# EAGLE library part GUMSENSE (library basestation)
The gumsense board footprint Each subcircuit or header has its own symbol. Placement of each part is optional. Remember that to get a gumsense to mate correctly onto this footprint, its pin headers must all be soldered mirrored; projecting from the bottom of the board.
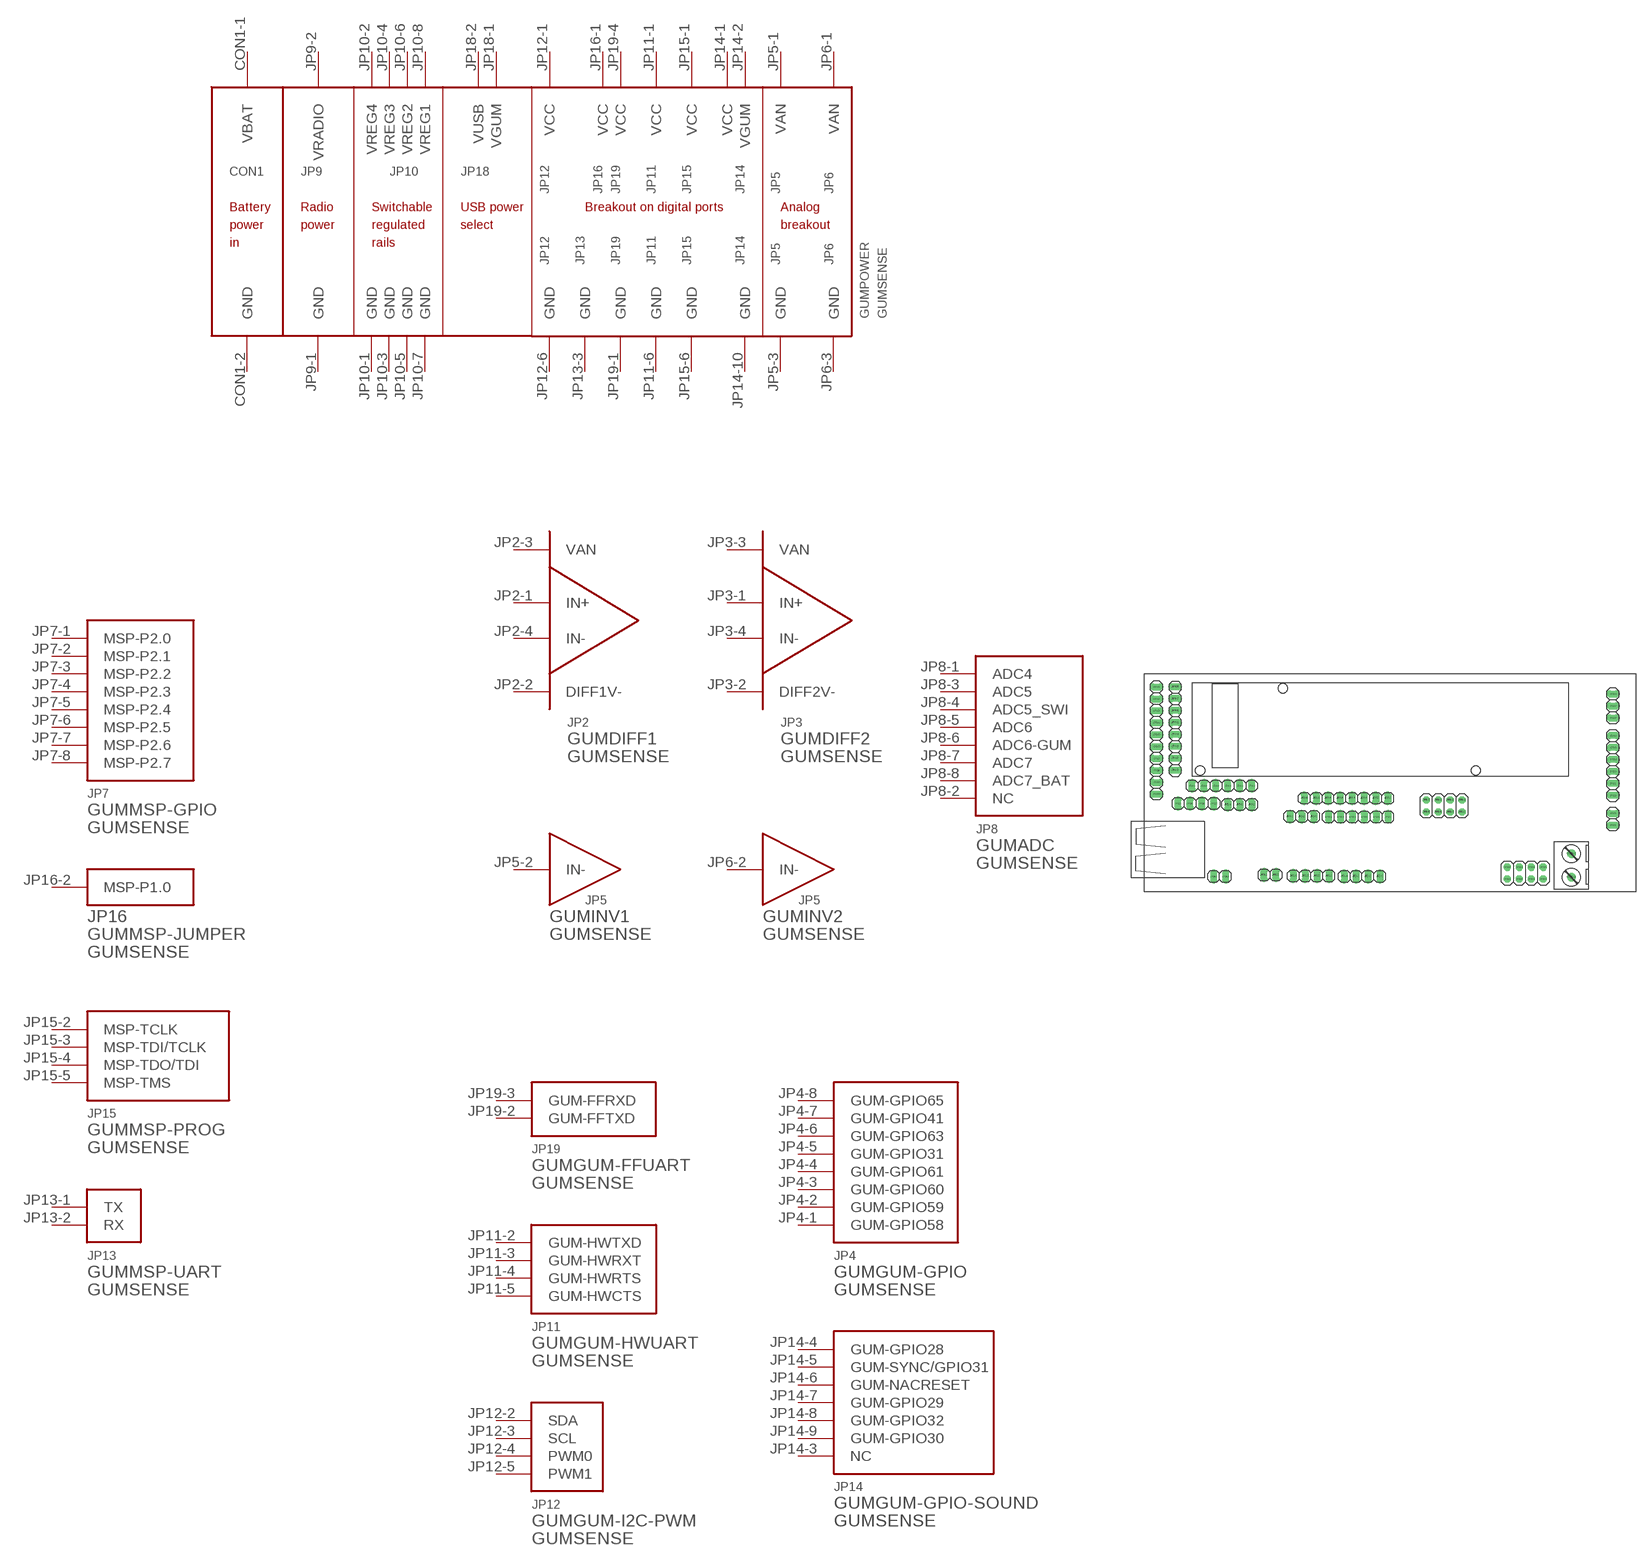
[diagram p0: symbol with the pads of GUMSENSE; footprint GUMSENSE]

Designator prefix GUM; gates DIFF1=GUMSENSE-AN-DIFF1 DIFF2=GUMSENSE-AN-DIFF2 INV1=GUMSENSE-AN-INV1 INV2=GUMSENSE-AN-INV1 ADC=GUMSENSE-MSP-ADC MSP-GPIO=GUMSENSE-MSP-GPIO MSP-JUMPER=GUMSENSE-MSP-JUMPER MSP-PROG=GUMSENSE-MSP-PROG MSP-UART=GUMSENSE-MSP-UART POWER=GUMSENSE-POWER GUM-FFUART=GUMSENSE-STIX-FFUART GUM-GPIO=GUMSENSE-STIX-GPIO GUM-GPIO-SOUND=GUMSENSE-STIX-GPIO-SOUND GUM-HWUART=GUMSENSE-STIX-HWUART GUM-I2C-PWM=GUMSENSE-STIX-I2C-PWM

## GUMSENSE  [GUMSENSE]
CON1-1  POWER:VBAT  pwr
CON1-2  POWER:GND  pwr
JP2-1  DIFF1:IN+  in
JP2-2  DIFF1:DIFF1V-  sup
JP2-3  DIFF1:VAN  sup
JP2-4  DIFF1:IN-  in
JP3-1  DIFF2:IN+  in
JP3-2  DIFF2:DIFF2V-  sup
JP3-3  DIFF2:VAN  sup
JP3-4  DIFF2:IN-  in
JP4-1  GUM-GPIO:GUM-GPIO58
JP4-2  GUM-GPIO:GUM-GPIO59
JP4-3  GUM-GPIO:GUM-GPIO60
JP4-4  GUM-GPIO:GUM-GPIO61
JP4-5  GUM-GPIO:GUM-GPIO31
JP4-6  GUM-GPIO:GUM-GPIO63
JP4-7  GUM-GPIO:GUM-GPIO41
JP4-8  GUM-GPIO:GUM-GPIO65
JP5-1  POWER:VAN  sup
JP5-2  INV1:IN-  in
JP5-3  POWER:GND  sup
JP6-1  POWER:VAN  sup
JP6-2  INV2:IN-  in
JP6-3  POWER:GND  sup
JP7-1  MSP-GPIO:MSP-P2.0
JP7-2  MSP-GPIO:MSP-P2.1
JP7-3  MSP-GPIO:MSP-P2.2
JP7-4  MSP-GPIO:MSP-P2.3
JP7-5  MSP-GPIO:MSP-P2.4
JP7-6  MSP-GPIO:MSP-P2.5
JP7-7  MSP-GPIO:MSP-P2.6
JP7-8  MSP-GPIO:MSP-P2.7
JP8-1  ADC:ADC4  in
JP8-2  ADC:NC  nc
JP8-3  ADC:ADC5  in
JP8-4  ADC:ADC5_SWI  in
JP8-5  ADC:ADC6  in
JP8-6  ADC:ADC6-GUM  in
JP8-7  ADC:ADC7  in
JP8-8  ADC:ADC7_BAT  in
JP9-1  POWER:GND  sup
JP9-2  POWER:VRADIO  sup
JP10-1  POWER:GND  sup
JP10-2  POWER:VREG4  sup
JP10-3  POWER:GND  sup
JP10-4  POWER:VREG3  sup
JP10-5  POWER:GND  sup
JP10-6  POWER:VREG2  sup
JP10-7  POWER:GND  sup
JP10-8  POWER:VREG1  sup
JP11-1  POWER:VCC  sup
JP11-2  GUM-HWUART:GUM-HWTXD  out
JP11-3  GUM-HWUART:GUM-HWRXT  in
JP11-4  GUM-HWUART:GUM-HWRTS  out
JP11-5  GUM-HWUART:GUM-HWCTS  in
JP11-6  POWER:GND  sup
JP12-1  POWER:VCC  sup
JP12-2  GUM-I2C-PWM:SDA  oc
JP12-3  GUM-I2C-PWM:SCL  oc
JP12-4  GUM-I2C-PWM:PWM0
JP12-5  GUM-I2C-PWM:PWM1
JP12-6  POWER:GND  sup
JP13-1  MSP-UART:TX  out
JP13-2  MSP-UART:RX  in
JP13-3  POWER:GND  sup
JP14-1  POWER:VCC  sup
JP14-2  POWER:VGUM  sup
JP14-3  GUM-GPIO-SOUND:NC  nc
JP14-4  GUM-GPIO-SOUND:GUM-GPIO28
JP14-5  GUM-GPIO-SOUND:GUM-SYNC/GPIO31
JP14-6  GUM-GPIO-SOUND:GUM-NACRESET
JP14-7  GUM-GPIO-SOUND:GUM-GPIO29
JP14-8  GUM-GPIO-SOUND:GUM-GPIO32
JP14-9  GUM-GPIO-SOUND:GUM-GPIO30
JP14-10  POWER:GND  sup
JP15-1  POWER:VCC  sup
JP15-2  MSP-PROG:MSP-TCLK
JP15-3  MSP-PROG:MSP-TDI/TCLK
JP15-4  MSP-PROG:MSP-TDO/TDI
JP15-5  MSP-PROG:MSP-TMS
JP15-6  POWER:GND  sup
JP16-1  POWER:VCC  sup
JP16-2  MSP-JUMPER:MSP-P1.0
JP18-1  POWER:VGUM  pas
JP18-2  POWER:VUSB  pas
JP19-1  POWER:GND  sup
JP19-2  GUM-FFUART:GUM-FFTXD  out
JP19-3  GUM-FFUART:GUM-FFRXD  in
JP19-4  POWER:VCC  sup

## Footprint GUMSENSE (pad centres in mm)
drill 1.1 pad 1.8 round: CON1-1 90.83,7.9; CON1-2 90.83,2.9
drill 1.016 pad 1.524 long: JP2-1 50.074,3.061; JP2-2 47.533,3.061; JP2-3 44.993,3.061; JP2-4 42.453,3.061; JP3-1 39.23,3.157; JP3-2 36.69,3.157; JP3-3 34.15,3.157; JP3-4 31.61,3.157; JP4-1 6.478,25.652; JP4-2 6.478,28.192; JP4-3 6.478,30.733; JP4-4 6.478,33.273; JP4-5 6.478,35.812; JP4-6 6.478,38.352; JP4-7 6.478,40.892; JP4-8 6.478,43.432; JP5-1 22.774,18.343; JP5-2 20.235,18.343; JP5-3 17.695,18.343; JP6-1 35.988,15.804; JP6-2 33.448,15.804; JP6-3 30.908,15.804; JP7-1 51.738,19.701; JP7-2 49.198,19.701; JP7-3 46.658,19.701; JP7-4 44.118,19.701; JP7-5 41.578,19.701; JP7-6 39.038,19.701; JP7-7 36.498,19.701; JP7-8 33.958,19.701; JP9-1 25.402,3.358; JP9-2 27.942,3.358; JP11-1 10.059,22.368; JP11-2 12.598,22.368; JP11-3 15.139,22.368; JP11-4 17.678,22.368; JP11-5 20.218,22.368; JP11-6 22.759,22.368; JP12-1 51.808,15.754; JP12-2 49.268,15.754; JP12-3 46.728,15.754; JP12-4 44.188,15.754; JP12-5 41.648,15.754; JP12-6 39.108,15.754; JP13-1 99.695,41.91; JP13-2 99.695,39.37; JP13-3 99.695,36.83; JP14-1 2.519,43.422; JP14-2 2.519,40.883; JP14-3 2.519,38.343; JP14-4 2.519,35.803; JP14-5 2.519,33.263; JP14-6 2.519,30.723; JP14-7 2.519,28.183; JP14-8 2.519,25.642; JP14-9 2.519,23.102; JP14-10 2.519,20.562; JP15-1 99.695,20.32; JP15-2 99.695,22.86; JP15-3 99.695,25.4; JP15-4 99.695,27.94; JP15-5 99.695,30.48; JP15-6 99.695,33.02; JP16-1 99.695,16.51; JP16-2 99.695,13.97; JP18-1 17.2,3.04; JP18-2 14.66,3.04; JP19-1 7.072,18.594; JP19-2 9.612,18.594; JP19-3 12.152,18.594; JP19-4 14.692,18.594
drill 1.016 pad 1.524 octagon: JP8-1 67.564,19.304; JP8-2 67.564,16.764; JP8-3 65.024,19.304; JP8-4 65.024,16.764; JP8-5 62.484,19.304; JP8-6 62.484,16.764; JP8-7 59.944,19.304; JP8-8 59.944,16.764; JP10-1 77.202,2.49; JP10-2 77.202,5.03; JP10-3 79.742,2.49; JP10-4 79.742,5.03; JP10-5 82.282,2.49; JP10-6 82.282,5.03; JP10-7 84.822,2.49; JP10-8 84.822,5.03